# EAGLE library part SM-ER9 (library hv_inductor)
TRANSFORMER SMD converter and transformer acc. to customer specification
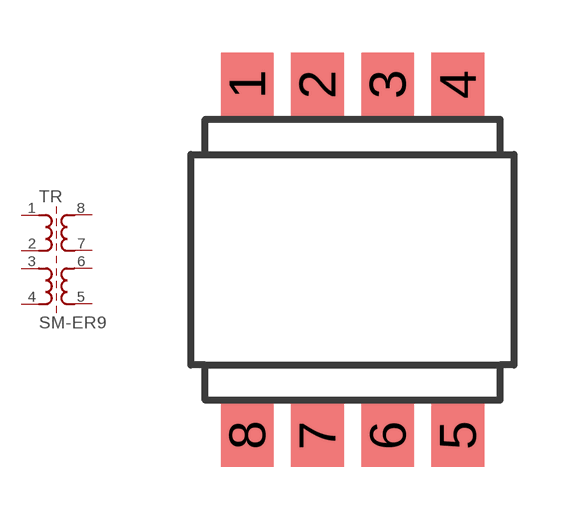
[diagram p5: symbol with the pads of SM-ER9; footprint SM-ER9]

Designator prefix TR

## SM-ER9 (OC_FARNELL: unknown; OC_NEWARK: unknown)  [SM-ER9]
1  1  pas
2  2  pas
3  3  pas
4  4  pas
5  5  pas
6  6  pas
7  7  pas
8  8  pas

## Footprint SM-ER9 (pad centres in mm)
SMD CONVERTER/TRANSFORMER acc. to customer specification, 9.5 x 11.6 x 5.5 mm
smd 1.5 x 1.8: 1 -3,5; 2 -1,5; 3 1,5; 4 3,5; 5 3,-5; 6 1,-5; 7 -1,-5; 8 -3,-5